# EAGLE library part ARDUINO-NANO (library _mtvl.core-board)
Arduino Nano Core Board
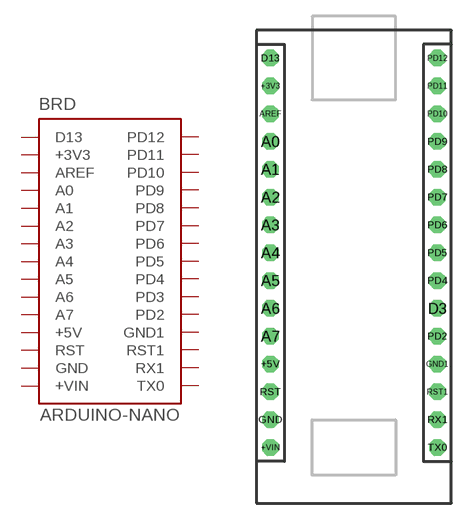
[diagram p1: symbol with the pads of NANO; footprint NANO]

Designator prefix BRD

## ARDUINO-NANO  [NANO]
+3V3  +3V3
+5V  +5V
+VIN  +VIN
A0  A0
A1  A1
A2  A2
A3  A3
A4  A4
A5  A5
A6  A6
A7  A7
AREF  AREF
D3  PD3
D13  D13
GND  GND  sup
GND1  GND1  sup
PD2  PD2
PD4  PD4
PD5  PD5
PD6  PD6
PD7  PD7
PD8  PD8
PD9  PD9
PD10  PD10
PD11  PD11
PD12  PD12
RST  RST
RST1  RST1
RX1  RX1
TX0  TX0

## Footprint NANO (pad centres in mm)
Arduino Nano Core Board
drill 1 octagon: +3V3 -7.62,16.51; +5V -7.62,-8.89; +VIN -7.62,-16.51; A0 -7.62,11.43; A1 -7.62,8.89; A2 -7.62,6.35; A3 -7.62,3.81; A4 -7.62,1.27; A5 -7.62,-1.27; A6 -7.62,-3.81; A7 -7.62,-6.35; AREF -7.62,13.97; D3 7.62,-3.81; D13 -7.62,19.05; GND -7.62,-13.97; GND1 7.62,-8.89; PD2 7.62,-6.35; PD4 7.62,-1.27; PD5 7.62,1.27; PD6 7.62,3.81; PD7 7.62,6.35; PD8 7.62,8.89; PD9 7.62,11.43; PD10 7.62,13.97; PD11 7.62,16.51; PD12 7.62,19.05; RST -7.62,-11.43; RST1 7.62,-11.43; RX1 7.62,-13.97; TX0 7.62,-16.51